# Altium schematic symbol library R_240R_RK73H1ETTP2400F.SchLib: 1 symbol
Pins are listed as number, name and electrical type; pins without a type are passive.

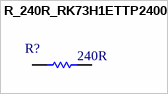
[diagram p0: symbol R_240R_RK73H1ETTP2400F]

## R_240R_RK73H1ETTP2400F
designator R?  (value not drawn)
footprint RESC1005X03N (Chip Resistor, 2-Leads, Body 1.00x0.50mm, IPC Medium Density)
pins: 1, 2
text: 240R